# EAGLE library part 2174507-2 (library USB_TypeB_Conn)
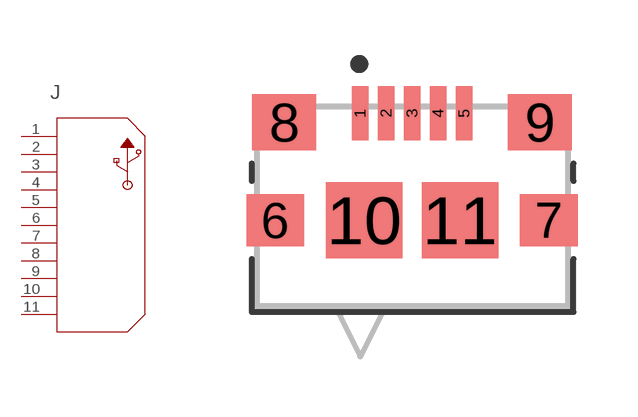
[diagram p0: symbol with the pads of CON5_USB2174507; footprint CON5_USB2174507]

Designator prefix J

## 2174507-2 (MANUFACTURER_PART_NUMBER: 21745072; VENDOR: TE Connectivity)  [CON5_USB2174507]
1  1  pas
2  2  pas
3  3  pas
4  4  pas
5  5  pas
6  6  pas
7  7  pas
8  8  pas
9  9  pas
10  10  pas
11  11  pas

## Footprint CON5_USB2174507 (pad centres in mm)
smd 0.406 x 1.346: 1 -1.3,2.329; 2 -0.65,2.329; 3 0,2.329; 4 0.65,2.329; 5 1.3,2.329
smd 1.448 x 1.295: 6 -3.425,-0.348; 7 3.425,-0.348
smd 1.6 x 1.397: 8 -3.2,2.102; 9 3.2,2.102
smd 1.905 x 1.905: 10 -1.2,-0.348; 11 1.2,-0.348